# Altium schematic symbol library Integrated_Schlib3.SchLib: 2 symbols
Pins are listed as number, name and electrical type; pins without a type are passive.

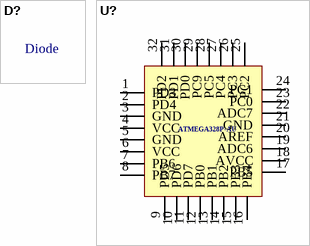
[diagram p0: symbols D? to U?]

## D?
designator Diode, comment Diode  (value not drawn)
Creator: Kumar Gaurav

## U?
designator ATMEGA328P-AU, comment ATMEGA328P-AU  (value not drawn)
8-bit AVR Microcontroller with 32K Bytes In-System / Programmable Flash; Creator: Gaurav Kumar; Date: 08-09-21
footprint Atmega_328_P-AU (TQFP, 32-Leads, Body 7.00x7.00mm, Pitch 0.80mm, Thermal Pad 0.00x0.00mm, IPC Medium Density)
pins: 1 PD3, 2 PD4, 3 GND, 4 VCC, 5 GND, 6 VCC, 7 PB6, 8 PB7, 9 PD5, 10 PD6, 11 PD7, 12 PB0, 13 PB1, 14 PB2, 15 PB3, 16 PB4, 17 PB5, 18 AVCC, 19 ADC6, 20 AREF, 21 GND, 22 ADC7, 23 PC0, 24 PC1, 25 PC2, 26 PC3, 27 PC4, 28 PC5, 29 PC9, 30 PD0, 31 PD1, 32 PD2